# EAGLE library part AT45DQ161-SHF-B (library AT45DQ161-SHF-B)
None
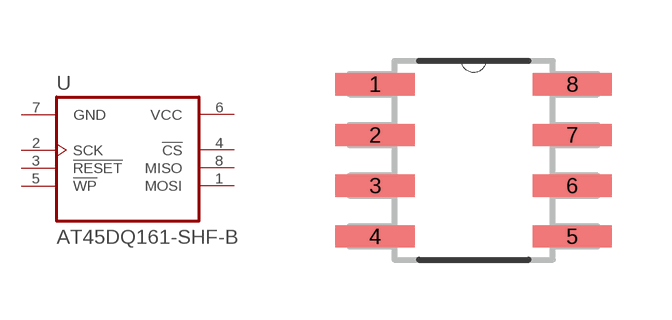
[diagram p0: symbol with the pads of SOIC127P600X175-8N; footprint SOIC127P600X175-8N]

Designator prefix U

## AT45DQ161-SHF-B (AVAILABILITY: Warning; DESCRIPTION: SPI Serial Flash Memory with Dual-I/O and Quad-I/O Support 16-Mbit DataFlash, 2.3V Minimum; MF: Adesto Technologies; MP: AT45DQ161-SHF-B; PACKAGE: SOIC-8 Adesto Technologies; PRICE: 1.73 USD; VALUE: AT45DQ161)  [SOIC127P600X175-8N]
1  MOSI  in
2  SCK  in
3  !RESET  in
4  !CS  in
5  !WP  in
6  VCC  pwr
7  GND  pwr
8  MISO  out

## Footprint SOIC127P600X175-8N (pad centres in mm)
smd 1.981 x 0.559: 1 -2.464,1.905; 2 -2.464,0.635; 3 -2.464,-0.635; 4 -2.464,-1.905; 5 2.464,-1.905; 6 2.464,-0.635; 7 2.464,0.635; 8 2.464,1.905